# Altium schematic symbol library APX809S.SchLib: 2 symbols
Pins are listed as number, name and electrical type; pins without a type are passive.

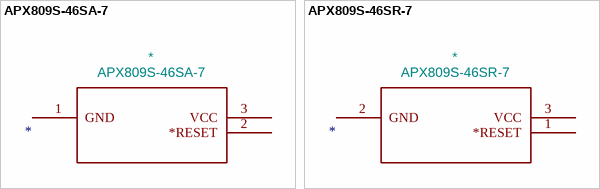
[diagram p0: symbols APX809S-46SA-7 to APX809S-46SR-7]

## APX809S-46SA-7
designator *  value APX809S-46SA-7
ki_fp_filters: SOT23_DIO SOT23_DIO-M SOT23_DIO-L; Footprint: SOT23_DIO
footprint SOT23_DIO
pins: 1 GND, 2 *RESET, 3 VCC

## APX809S-46SR-7
designator *  value APX809S-46SR-7
ki_fp_filters: SOT23_DIO SOT23_DIO-M SOT23_DIO-L; Footprint: APX809S:APX809S-46SA-7
footprint APX809S-46SA-7
pins: 1 *RESET, 2 GND, 3 VCC